# Altium footprint library CURRENT_SENSE_R.PcbLib: 1 footprints
Each footprint in its own frame and in the unit in brackets; x right, y up, seen from the top. Pads: shape width x height; smd on the part's side, far side on the other; paste and mask are expansions set on the pad; w line width, h text height; cw(c..) or ccw(c..) is an arc to the next point about the centre after c.
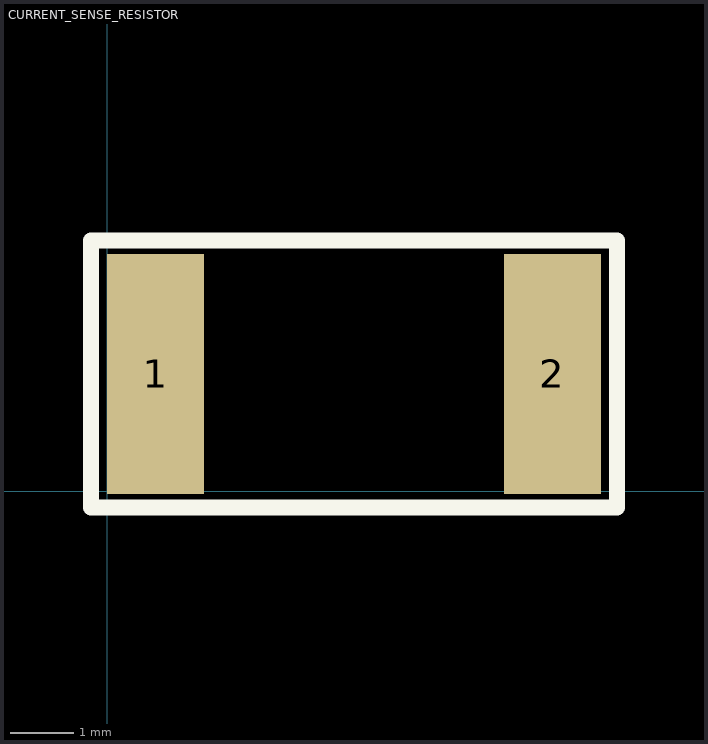
[diagram p0: the footprint, top view; thin cyan lines are the x and y axes]

## CURRENT_SENSE_RESISTOR [mil] "2512 CURRENT_SENSE_RESISTOR"
height 29
pads (2):
  rect 60x148 smd: 1(30,72.5) 2(275,72.5)
Top Overlay:
  lines w10: -10,-10 -10,155 315,155 315,-10 -10,-10